# EAGLE library part CP2102/9 (library Interface)
CP2102/9 SINGLE-CHIP USB TO UART BRIDGE. Integrated USB transceiver; no external resistors requied. Integrated clock; no external crystal required. Internal 1024-byte programmable ROM for vendor ID product ID, serial number, power descriptor, release number, and product description strings. - EEPROM (CP2102). - EPROM (One-time programmable) (CP2109). Datasheet <https://www.silabs.com/Support%20Documents/TechnicalDocs/CP2102-9.pdf>
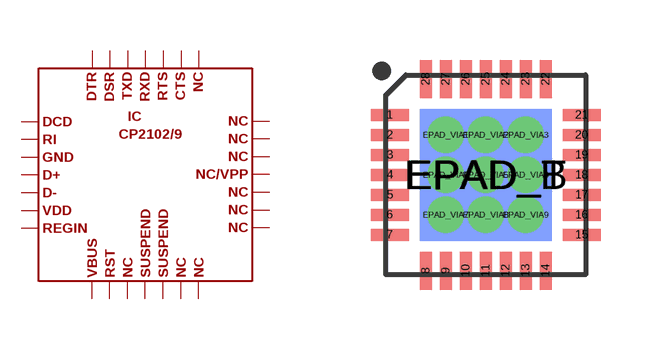
[diagram p7: symbol with the pads of QFN-28; footprint QFN-28]

Designator prefix IC

## CP2102/9  [QFN-28]
1  P$1
2  P$2
3  P$3
4  P$4
5  P$5
6  P$6
7  P$7
8  P$8
9  P$9
10  P$10
11  P$11
12  P$12
13  P$13
14  P$14
15  P$15
16  P$16
17  P$17
18  P$18
19  P$19
20  P$20
21  P$21
22  P$22
23  P$23
24  P$24
25  P$25
26  P$26
27  P$27
28  P$28
EPAD_B  P$3
EPAD_T  P$3
EPAD_VIA1  P$3
EPAD_VIA2  P$3
EPAD_VIA3  P$3
EPAD_VIA4  P$3
EPAD_VIA5  P$3
EPAD_VIA6  P$3
EPAD_VIA7  P$3
EPAD_VIA8  P$3
EPAD_VIA9  P$3

## Footprint QFN-28 (pad centres in mm)
smd 0.95 x 0.3: 1 -2.4,1.5; 2 -2.4,1; 3 -2.4,0.5; 4 -2.4,0; 5 -2.4,-0.5; 6 -2.4,-1; 7 -2.4,-1.5; 15 2.4,-1.5; 16 2.4,-1; 17 2.4,-0.5; 18 2.4,0; 19 2.4,0.5; 20 2.4,1; 21 2.4,1.5
smd 0.3 x 0.95: 8 -1.5,-2.4; 9 -1,-2.4; 10 -0.5,-2.4; 11 0,-2.4; 12 0.5,-2.4; 13 1,-2.4; 14 1.5,-2.4; 22 1.5,2.4; 23 1,2.4; 24 0.5,2.4; 25 0,2.4; 26 -0.5,2.4; 27 -1,2.4; 28 -1.5,2.4
smd 3.3 x 3.3 bottom: EPAD_B 0,0
smd 3.3 x 3.3: EPAD_T 0,0
drill 0.4: EPAD_VIA1 -1,1; EPAD_VIA2 0,1; EPAD_VIA3 1,1; EPAD_VIA4 1,0; EPAD_VIA5 0,0; EPAD_VIA6 -1,0; EPAD_VIA7 -1,-1; EPAD_VIA8 0,-1; EPAD_VIA9 1,-1